# Altium schematic symbol library Schlib.SchLib: 22 symbols
Pins are listed as number, name and electrical type; pins without a type are passive.

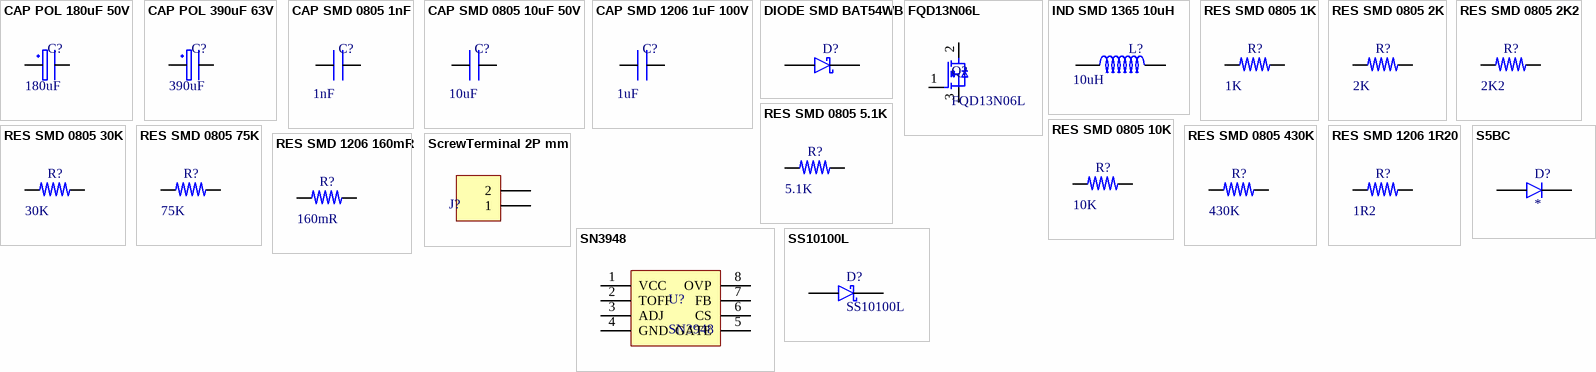
[diagram p0: symbols CAP POL 180uF 50V to SS10100L]

## CAP POL 180uF 50V
designator C?, comment 180uF
Manufacturer: SamYoung Electronics; Manufacturer Part Number: NXA50V180M8*20 LO; Supplier: LCSC; Supplier Part Number: C2835640; Value: 180uF
footprint CAP Electrolytic TH D8C3.5H11.5 (H)
pins: 1, 2

## CAP POL 390uF 63V
designator C?, comment 390uF
Manufacturer: Ymin; Manufacturer Part Number: LKME2001J391MF; Supplier: LCSC; Supplier Part Number: C442948; Value: 390uF
footprint CAP Electrolytic TH D8C3.5H11.5 (H)
pins: 1, 2

## CAP SMD 0805 1nF
designator C?  value 1nF  (hidden comment: *)
100V 1nF NP0 ±5% 0805 Multilayer Ceramic Capacitors MLCC - SMD/SMT ROHS; Manufacturer: YAGEO; Manufacturer Part Number: CC0805JRNPO0BN102; Supplier: LCSC; Supplier Part Number: C326940
footprint CAP Ceramic SMD 0805
pins: 1, 2

## CAP SMD 0805 10uF 50V
designator C?  value 10uF  (hidden comment: *)
50V 10uF X5R ±10% 0805 Multilayer Ceramic Capacitors MLCC - SMD/SMT ROHS; Manufacturer: Murata Electronics; Manufacturer Part Number: GRM21BR61H106KE43L; Supplier: LCSC; Supplier Part Number: C440198
footprint CAP Ceramic SMD 0805
pins: 1, 2

## CAP SMD 1206 1uF 100V
designator C?  value 1uF  (hidden comment: *)
100V 1uF X7R ±10% 1206 Multilayer Ceramic Capacitors MLCC - SMD/SMT ROHS; Manufacturer: YAGEO; Manufacturer Part Number: CC1206KKX7R0BB105; Supplier: LCSC; Supplier Part Number: C70463
footprint CAP Ceramic SMD 1206
pins: 1, 2

## DIODE SMD BAT54WB
designator D?  (value not drawn)
30V 100mA 240mV@100mA SOD-323W Schottky Diodes ROHS /; Manufacturer: Shandong Jingdao Microelectronics; Manufacturer Part Number: BAT54WB; Supplier: LCSC; Supplier Part Number: C2972951
footprint SOD-323
pins: 1, 2

## FQD13N06L
designator Q?
60V 11A 115mΩ@10V,5.5A 2.5V@250uA 1 N-Channel TO-252AA MOSFETs ROHS; Manufacturer: onsemi; Manufacturer Part Number: FQD13N06LTM; Supplier: LCSC; Supplier Part Number: C236914
footprint TO252_2
pins: 1 G, 2 D, 3 S

## IND SMD 1365 10uH
designator L?  value 10uH  (hidden comment: *)
10A 10uH ±20% 13A 19.2mΩ SMD,12.6x13.5mm Inductors (SMD) ROHS; Manufacturer: KOHERelec; Manufacturer Part Number: MDA1365-100M; Supllier Part Number: C2847583; Supplier: LCSC
footprint IND SMD 1365
pins: 1, 2

## RES SMD 0805 1K
designator R?, comment 1K
Manufacturer: YAGEO; Manufacturer Part Number: RC0805FR-071KL; Supplier: LCSC; Supplier Part Number: C95781; Value: 1K
footprint RES SMD 0805
pins: 1, 2

## RES SMD 0805 2K
designator R?, comment 2K
Manufacturer: YAGEO; Manufacturer Part Number: RC0805FR-072KL; Supplier: LCSC; Supplier Part Number: C114572; Value: 2K
footprint RES SMD 0805
pins: 1, 2

## RES SMD 0805 2K2
designator R?, comment 2K2
Manufacturer: YAGEO; Manufacturer Part Number: RC0805FR-072K2L; Supplier: LCSC; Supplier Part Number: C114561; Value: 2K2
footprint RES SMD 0805
pins: 1, 2

## RES SMD 0805 5.1K
designator R?, comment 5.1K
400mW Thick Film Resistors 150V ±200ppm/℃ ±5% 5.1kΩ 0805 Chip Resistor - Surface Mount ROHS; Manufacturer: ROHM Semicon; Manufacturer Part Number: ESR10EZPJ512; Supplier: LCSC; Supplier Part Number: C2085709; Value: 5.1K
footprint RES SMD 0805
pins: 1, 2

## RES SMD 0805 10K
designator R?, comment 10K
125mW Thick Film Resistors 150V ±100ppm/℃ ±1% 10kΩ 0805 Chip Resistor - Surface Mount ROHS; Manufacturer: YAGEO; Manufacturer Part Number: RC0805FR-0710KL; Supplier: LCSC; Supplier Part Number: C84376; Value: 10K
footprint RES SMD 0805
pins: 1, 2

## RES SMD 0805 30K
designator R?, comment 30K
Manufacturer: FOJAN; Manufacturer Part Number: FRC0805J303TS; Supplier: LCSC; Supplier Part Number: C2930272; Value: 30K
footprint RES SMD 0805
pins: 1, 2

## RES SMD 0805 75K
designator R?, comment 75K
125mW Thick Film Resistors 150V ±100ppm/℃ ±1% 75kΩ 0805 Chip Resistor - Surface Mount ROHS; Manufacturer: YAGEO; Manufacturer Part Number: RC0805FR-0775KL; Supplier: LCSC; Supplier Part Number: C137491; Value: 75K
footprint RES SMD 0805
pins: 1, 2

## RES SMD 0805 430K
designator R?, comment 430K
125mW Thick Film Resistors 150V ±100ppm/℃ ±5% 430kΩ 0805 Chip Resistor - Surface Mount ROHS; Manufacturer: YAGEO; Manufacturer Part Number: RC0805JR-07430KL; Supplier: LCSC; Supplier Part Number: C137431; Value: 430K
footprint RES SMD 0805
pins: 1, 2

## RES SMD 1206 1R20
designator R?, comment 1R2
500mW Thick Film Resistors ±200ppm/℃ ±1% 1.2Ω 1206 Chip Resistor - Surface Mount ROHS; Manufacturer: YAGEO; Manufacturer Part Number: RC1206FR-7W1R2L; Supplier: LCSC; Supplier Part Number: C5355180; Value: 1R2
footprint RES SMD 1206
pins: 1, 2

## RES SMD 1206 160mR
designator R?, comment value 160mR  (hidden comment: 16mR)
500mW Thick Film Resistors 200V ±1% 160mΩ 1206 Chip Resistor - Surface Mount ROHS; Manufacturer: UNI-ROYAL(Uniroyal Elec); Manufacturer Part Number: HP06W2F160LT5E; Supplier: LCSC; Supplier Part Number: C414953
footprint RES SMD 1206
pins: 1, 2

## S5BC
designator D?
5A 100V 1.15V@5A SMC(DO-214AB) Diodes - General Purpose ROHS; Manufacturer: Diodes Incorporated; Manufacturer Part Number: S5BC-13-F; Supplier: LCSC; Supplier Part Number: C155211
footprint SMC
pins: 1, 2

## ScrewTerminal 2P mm
designator J?  (value not drawn)
Copper Alloy 1x2P Tin 5mm 2.5 1 2 10A -40℃~+105℃ 300V Green 14~26 Direct Insert Plugin,P=5mm Screw Terminal Blocks ROHS; Manufacturer: MAX; Manufacturer Part Number: MX126-5.0-02P-GN01-Cu-S-A; Supplier: LCSC; ComponentLink1URL: https://datasheet.ciiva.com/824/6912141100xx-824001.pdf?src-supplier=Digi-Key; ComponentLink1Description: https://datasheet.ciiva.com/824/6912141100xx-824001.pdf?src-supplier=Digi-Key; ComponentLink2URL: https://datasheet.ciiva.com/48693/001088618-da-01-en-wr-tbl-terminal-block2141-691214110002-48693195.pdf?src-supplier=Conrad; ComponentLink2Description: https://datasheet.ciiva.com/48693/001088618-da-01-en-wr-tbl-terminal-block2141-691214110002-48693195.pdf?src-supplier=Conrad; Supplier Part Number: C5188434
footprint Connector screw terminal Block TH 1x2 9.5 WJ46-B
pins: 1, 2

## SN3948
designator U?
SOP-8 DC-DC Converters ROHS; Manufacturer: ISSI; Manufacturer Part Number: SN3948; Supplier: LCSC; Supplier Part Number: C3041112
footprint SN3948_SOP8
pins: 1 VCC, 2 TOFF, 3 ADJ, 4 GND, 5 GATE, 6 CS, 7 FB, 8 OVP

## SS10100L
designator D?
100V 10A 700mV SMB Schottky Diodes ROHS; Manufacturer: GOODWORK; Manufacturer Part Number: SS10100L; Supplier: LCSC; Supplier Part Number: C21713964
footprint DO-214AA
pins: 1, 2